# Altium footprint library Controller.PcbLib: 41 footprints (part 1 of 3)
Each footprint in its own frame and in the unit in brackets; x right, y up, seen from the top. Pads: shape width x height; smd on the part's side, far side on the other; paste and mask are expansions set on the pad; w line width, h text height; cw(c..) or ccw(c..) is an arc to the next point about the centre after c.
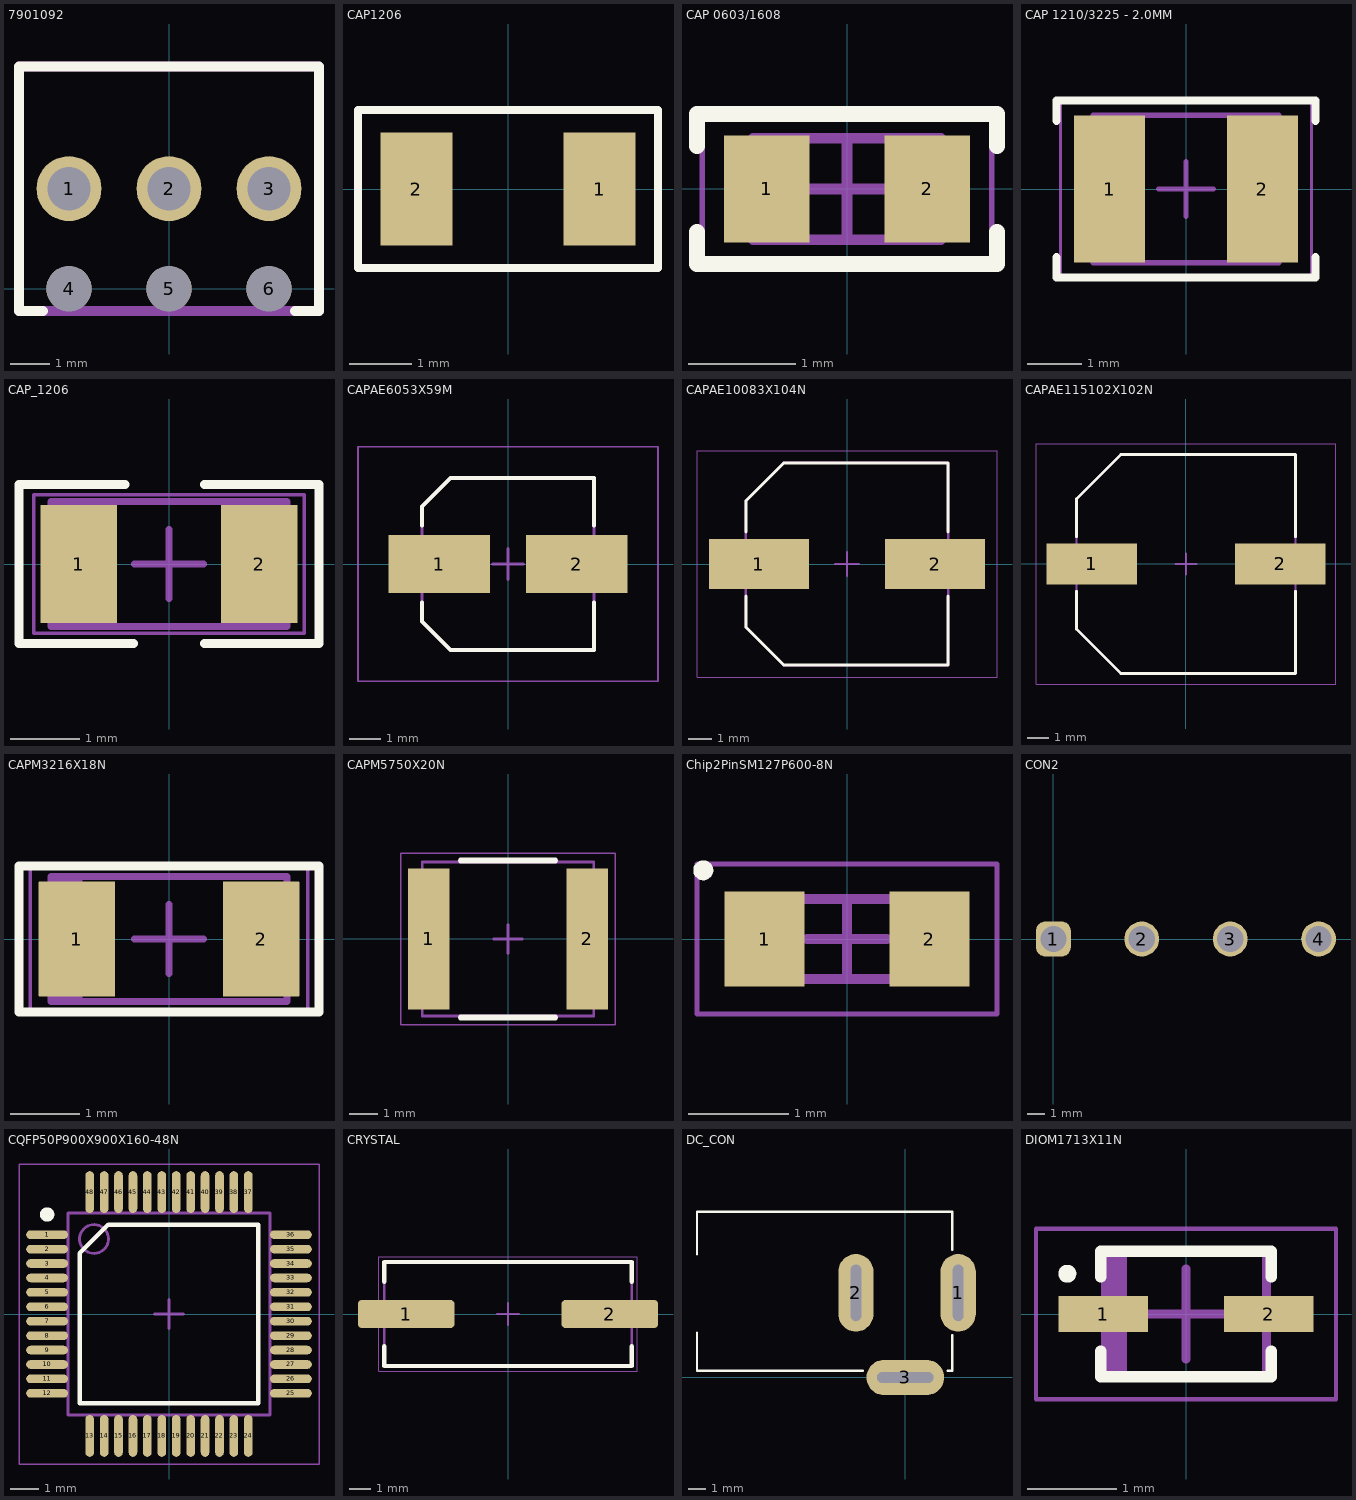
[diagram p0: the footprints below, top view; thin cyan lines are the x and y axes]

## 7901092 [mm]
pads (6):
  round 1.65 hole 1.1: 1(-2.54,2.54) 2(0,2.54) 3(2.54,2.54)
  round 1.15 hole 1.15 unplated: 4(-2.54,0) 5(0,0) 6(2.54,0)
Top Overlay:
  lines w0.254: -3.2,-0.56 -3.81,-0.56 -3.81,5.64 3.81,5.64 3.81,-0.56 3.2,-0.56
Mechanical 15:
  lines w0.254: -3.81,-0.56 -3.81,5.64 3.81,5.64 3.81,-0.56 -3.81,-0.56

## CAP1206 [mm] "Ceramic Capacitor 1206"
height 2.5
pads (2):
  rrect1% 1.16x1.82 smd: 1(1.475,0) 2(-1.475,0)
Top Overlay:
  lines w0.127: -2.413,-1.27 -2.413,1.27 2.413,1.27 2.413,-1.27 -2.413,-1.27
3D body "CAP-1206.step": height 0.57, standoff 0, extent -1.6,-0.81 1.6,0.81

## CAP 0603/1608 [mm] "Ceramic Capacitor 0603"
height 0.89
pads (2):
  rrect1% 0.8x1 smd: 1(-0.75,0) 2(0.75,0)
Top Overlay:
  lines w0.15: -1.4,-0.4 -1.4,-0.7 1.4,-0.7 1.4,-0.4 ; -1.4,0.4 -1.4,0.7 1.4,0.7 1.4,0.4
Mechanical 13:
  lines w0.1: -0.875,-0.475 0.875,-0.475 0.875,0.475 -0.875,0.475 -0.875,-0.475
Mechanical 15:
  lines w0.05: -1.35,-0.75 1.35,-0.75 1.35,0.75 -1.35,0.75 -1.35,-0.75
  lines w0.1: -0.475,0 0.475,0 ; 0,-0.475 0,0.475
3D body "0603 cap.STEP": height 0.82, standoff 0, extent -0.8,-0.412 0.8,0.412

## CAP 1210/3225 - 2.0MM [mm] "Chip Capacitor, 2-Leads, Body 3.20x2.50mm, IPC Medium Density"
height 2
pads (2):
  rrect1% 1.3x2.7 smd: 1(-1.4,0) 2(1.4,0)
Top Overlay:
  lines w0.15: -2.375,-1.25 -2.375,-1.625 2.375,-1.625 2.375,-1.25 ; -2.375,1.25 -2.375,1.625 2.375,1.625 2.375,1.25
Mechanical 13:
  lines w0.1: -1.7,-1.35 1.7,-1.35 1.7,1.35 -1.7,1.35 -1.7,-1.35
Mechanical 15:
  lines w0.05: -2.3,-1.6 2.3,-1.6 2.3,1.6 -2.3,1.6 -2.3,-1.6
  lines w0.1: -0.5,0 0.5,0 ; 0,-0.5 0,0.5
3D body "CAP 1210-2.0mm.STEP": height 2, standoff 0, extent -1.6,-1.25 1.6,1.25

## CAP_1206 [mm] "Chip Capacitor, 2-Leads, Body 3.20x1.60mm, IPC High Density"
height 1
pads (2):
  rrect1% 1.1x1.7 smd: 1(-1.3,0) 2(1.3,0)
Top Overlay:
  lines w0.127: -0.635,1.143 -2.159,1.143 -2.159,-1.143 -0.508,-1.143 ; 0.508,-1.143 2.159,-1.143 2.159,1.143 0.508,1.143
Mechanical 13:
  lines w0.1: -1.7,-0.9 -1.7,0.9 1.7,0.9 1.7,-0.9 -1.7,-0.9
Mechanical 15:
  lines w0.05: -1.95,-1 -1.95,1 1.95,1 1.95,-1 -1.95,-1
  lines w0.1: -0.5,0 0.5,0 ; 0,-0.5 0,0.5
3D body "CAP_1206.step": height 1, standoff 0, extent -1.7,-0.9 1.7,0.9

## CAPAE6053X59M [mm] "Electrolytic Capacitor 5.30x5.30x5.90mm"
height 5.9
pads (2):
  rect 3.25x1.85 smd: 1(-2.2,0) 2(2.2,0)
Top Overlay:
  lines w0.127: -2.75,-1.225 -2.75,-1.837 -1.837,-2.75 2.75,-2.75 2.75,-1.225 ; -2.75,1.225 -2.75,1.837 -1.837,2.75 2.75,2.75 2.75,1.225
Mechanical 13:
  lines w0.1: -2.75,-1.837 -2.75,1.837 -1.837,2.75 2.75,2.75 2.75,-2.75 -1.837,-2.75 -2.75,-1.837
Mechanical 15:
  lines w0.05: -4.8,-3.75 4.8,-3.75 4.8,3.75 -4.8,3.75 -4.8,-3.75
  lines w0.1: -0.5,0 0.5,0 ; 0,-0.5 0,0.5
3D body "CAPAE6053X59M.step": height 5.9, standoff 0, extent -3,-2.75 3,2.75

## CAPAE10083X104N [mm] "Electrolytic Capacitor 8.30x8.30x10.40mm"
height 10.4
pads (2):
  rect 4.2x2.1 smd: 1(-3.7,0) 2(3.7,0)
Top Overlay:
  lines w0.127: -4.25,-1.35 -4.25,-2.65 -2.65,-4.25 4.25,-4.25 4.25,-1.35 ; -4.25,1.35 -4.25,2.65 -2.65,4.25 4.25,4.25 4.25,1.35
Mechanical 13:
  lines w0.1: -4.25,-2.65 -4.25,2.65 -2.65,4.25 4.25,4.25 4.25,-4.25 -2.65,-4.25 -4.25,-2.65
Mechanical 15:
  lines w0.05: -6.3,-4.75 6.3,-4.75 6.3,4.75 -6.3,4.75 -6.3,-4.75
  lines w0.1: -0.5,0 0.5,0 ; 0,-0.5 0,0.5
3D body "CAPAE10083X104N.step": height 10.4, standoff 0, extent -5,-4.25 5,4.25

## CAPAE115102X102N [mm] "Electrolytic Capacitor 10.25x10.25x10.20mm"
height 10.2
pads (2):
  rect 4.25x1.95 smd: 1(-4.425,0) 2(4.425,0)
Top Overlay:
  lines w0.127: -5.15,-1.275 -5.15,-3.063 -3.063,-5.15 5.15,-5.15 5.15,-1.275 ; -5.15,1.275 -5.15,3.062 -3.063,5.15 5.15,5.15 5.15,1.275
Mechanical 13:
  lines w0.1: -5.15,-3.063 -5.15,3.062 -3.063,5.15 5.15,5.15 5.15,-5.15 -3.063,-5.15 -5.15,-3.063
Mechanical 15:
  lines w0.05: -7.05,-5.65 7.05,-5.65 7.05,5.65 -7.05,5.65 -7.05,-5.65
  lines w0.1: -0.5,0 0.5,0 ; 0,-0.5 0,0.5
3D body "CAPAE115102X102N.step": height 10.2, standoff 0, extent -5.775,-5.15 5.775,5.15

## CAPM3216X18N [mm]
height 2
pads (2):
  rrect1% 1.1x1.65 smd: 1(-1.325,0) 2(1.325,0)
Top Overlay:
  lines w0.127: -2.159,-1.05 -2.159,1.05 2.159,1.05 2.159,-1.05 -2.159,-1.05
Mechanical 13:
  rectangle: -1.7,-0.9 -1.243,0.9
  lines w0.1: -1.7,-0.9 -1.7,0.9 1.7,0.9 1.7,-0.9 -1.7,-0.9
Mechanical 15:
  lines w0.05: -2,-1.05 -2,1.05 2,1.05 2,-1.05 -2,-1.05
  lines w0.1: -0.5,0 0.5,0 ; 0,-0.5 0,0.5
3D body "CAPM3216X18N.step": height 2, standoff 0, extent -1.92,-0.9 1.92,0.9

## CAPM5750X20N [mm] "Molded Capacitor, 2-Leads, Body 5.70x5.00mm, IPC Medium Density"
height 2
pads (2):
  rrect1% 1.45x4.95 smd: 1(-2.775,0) 2(2.775,0)
Top Overlay:
  lines w0.2: -1.65,-2.75 1.65,-2.75 ; -1.65,2.75 1.65,2.75
Mechanical 13:
  lines w0.1: -3,-2.7 3,-2.7 3,2.7 -3,2.7 -3,-2.7
Mechanical 15:
  lines w0.05: -3.75,-3 3.75,-3 3.75,3 -3.75,3 -3.75,-3
  lines w0.1: -0.5,0 0.5,0 ; 0,-0.5 0,0.5
3D body: height 2, standoff 0, extent -2.999,-2.699 2.999,2.699

## Chip2PinSM127P600-8N [mm] "SMT LED"
height 2
pads (2):
  rect 0.8x0.95 smd: 1(-0.825,0) 2(0.825,0)
Top Overlay:
  circle w0.1: c-1.437,0.687 r0.05
Mechanical 13:
  lines w0.1: -0.8,-0.4 -0.8,0.4 0.8,0.4 0.8,-0.4 -0.8,-0.4
Mechanical 15:
  lines w0.05: -1.5,-0.75 -1.5,0.75 1.5,0.75 1.5,-0.75 -1.5,-0.75
  lines w0.1: -0.4,0 0.4,0 ; 0,-0.4 0,0.4
3D body "scaled.step": height 0.17, standoff -0.08, extent -0.767,-0.379 0.739,0.377

## CON2 [mm] "5.08mm connection holes"
pads (4):
  rrect50% 2x2 hole 1.5 paste+0 mask+0: 1(0,0)
  round 2 hole 1.5 paste+0 mask+0: 2(5.08,0) 3(10.16,0) 4(15.24,0)

## CQFP50P900X900X160-48N [mm] "CQFP, 48-Leads, Body 9.00x9.00mm, Pitch 0.50mm, IPC Medium Density"
height 1.6
pads (48):
  oval 1.45x0.3 smd: 1(-4.225,2.75) 2(-4.225,2.25) 3(-4.225,1.75) 4(-4.225,1.25) 5(-4.225,0.75) 6(-4.225,0.25) 7(-4.225,-0.25) 8(-4.225,-0.75) 9(-4.225,-1.25) 10(-4.225,-1.75) 11(-4.225,-2.25) 12(-4.225,-2.75) 25(4.225,-2.75) 26(4.225,-2.25) 27(4.225,-1.75) 28(4.225,-1.25) 29(4.225,-0.75) 30(4.225,-0.25) 31(4.225,0.25) 32(4.225,0.75) 33(4.225,1.25) 34(4.225,1.75) 35(4.225,2.25) 36(4.225,2.75)
  oval 0.3x1.45 smd: 13(-2.75,-4.225) 14(-2.25,-4.225) 15(-1.75,-4.225) 16(-1.25,-4.225) 17(-0.75,-4.225) 18(-0.25,-4.225) 19(0.25,-4.225) 20(0.75,-4.225) 21(1.25,-4.225) 22(1.75,-4.225) 23(2.25,-4.225) 24(2.75,-4.225) 37(2.75,4.225) 38(2.25,4.225) 39(1.75,4.225) 40(1.25,4.225) 41(0.75,4.225) 42(0.25,4.225) 43(-0.25,4.225) 44(-0.75,4.225) 45(-1.25,4.225) 46(-1.75,4.225) 47(-2.25,4.225) 48(-2.75,4.225)
Top Overlay:
  circle w0.25: c-4.225,3.45 r0.125
  lines w0.152: -3.1,-3.1 -3.1,2.107 -2.107,3.1 3.1,3.1 3.1,-3.1 -3.1,-3.1
Mechanical 13:
  circle w0.1: c-2.6,2.6 r0.5
  lines w0.1: -3.5,-3.5 -3.5,3.5 3.5,3.5 3.5,-3.5 -3.5,-3.5
Mechanical 15:
  lines w0.05: -5.2,-5.2 -5.2,5.2 5.2,5.2 5.2,-5.2 -5.2,-5.2
  lines w0.1: -0.5,0 0.5,0 ; 0,-0.5 0,0.5
3D body "CQFP50P900X900X160-48N.step": height 1.45, standoff 0, extent -4.6,-4.6 4.6,4.6

## CRYSTAL [mm] "Crystal, 2-Leads, Body 4.70x11.40mm, Pitch 8.80mm, IPC Medium Density"
height 4.2
pads (2):
  rrect25% 4.5x1.3 smd: 1(-4.75,0) 2(4.75,0)
Top Overlay:
  lines w0.2: -5.775,-1.5 -5.775,-2.425 5.775,-2.425 5.775,-1.5 ; -5.775,1.5 -5.775,2.425 5.775,2.425 5.775,1.5
Mechanical 13:
  lines w0.1: -5.775,-2.425 -5.775,2.425 5.775,2.425 5.775,-2.425 -5.775,-2.425
Mechanical 15:
  lines w0.05: -6.025,-2.675 -6.025,2.675 6.025,2.675 6.025,-2.675 -6.025,-2.675
  lines w0.1: -0.5,0 0.5,0 ; 0,-0.5 0,0.5
3D body "HC49US SMT Crystal.STEP": height 4.2, standoff 0, extent -6.35,-2.35 6.35,2.35

## DC_CON [mm]
pads (3):
  oval 2x4.4 hole 0.6 slot 3.2 at 90 deg paste-2.54: 1(3,4.8) 2(-2.8,4.8)
  oval 4.4x2 hole 0.6 slot 3.2 at 0 deg paste-2.54: 3(0,0)
Top Overlay:
  lines w0.127: -11.811,2.54 -11.811,0.381 -2.413,0.381 ; -11.811,6.985 -11.811,9.398 2.667,9.398 2.667,7.239 ; 2.413,0.381 2.667,0.381 2.667,2.413
3D body: height 10, standoff 0, extent -11.833,0.427 2.667,9.427

## DIOM1713X11N [mm] "Molded Diode, 2-Leads, Body 1.70x1.30mm, IPC Medium Density"
height 1.1
pads (2):
  rect 1x0.4 smd: 1(-0.925,0) 2(0.925,0)
Top Overlay:
  circle w0.1: c-1.325,0.45 r0.05
  lines w0.127: -0.95,-0.413 -0.95,-0.7 0.95,-0.7 0.95,-0.413 ; -0.95,0.413 -0.95,0.7 0.95,0.7 0.95,0.413
Mechanical 13:
  rectangle: -0.9,-0.7 -0.658,0.7
  lines w0.1: -0.9,-0.7 -0.9,0.7 0.9,0.7 0.9,-0.7 -0.9,-0.7
Mechanical 15:
  lines w0.05: -1.675,-0.95 -1.675,0.95 1.675,0.95 1.675,-0.95 -1.675,-0.95
  lines w0.1: -0.5,0 0.5,0 ; 0,-0.5 0,0.5
3D body "DIOM1713X11N.step": height 1.1, standoff 0, extent -1.12,-0.7 1.12,0.7